# Altium integrated library TI Power Management Power Modules.IntLib: 831 symbols (part 2 of 44)
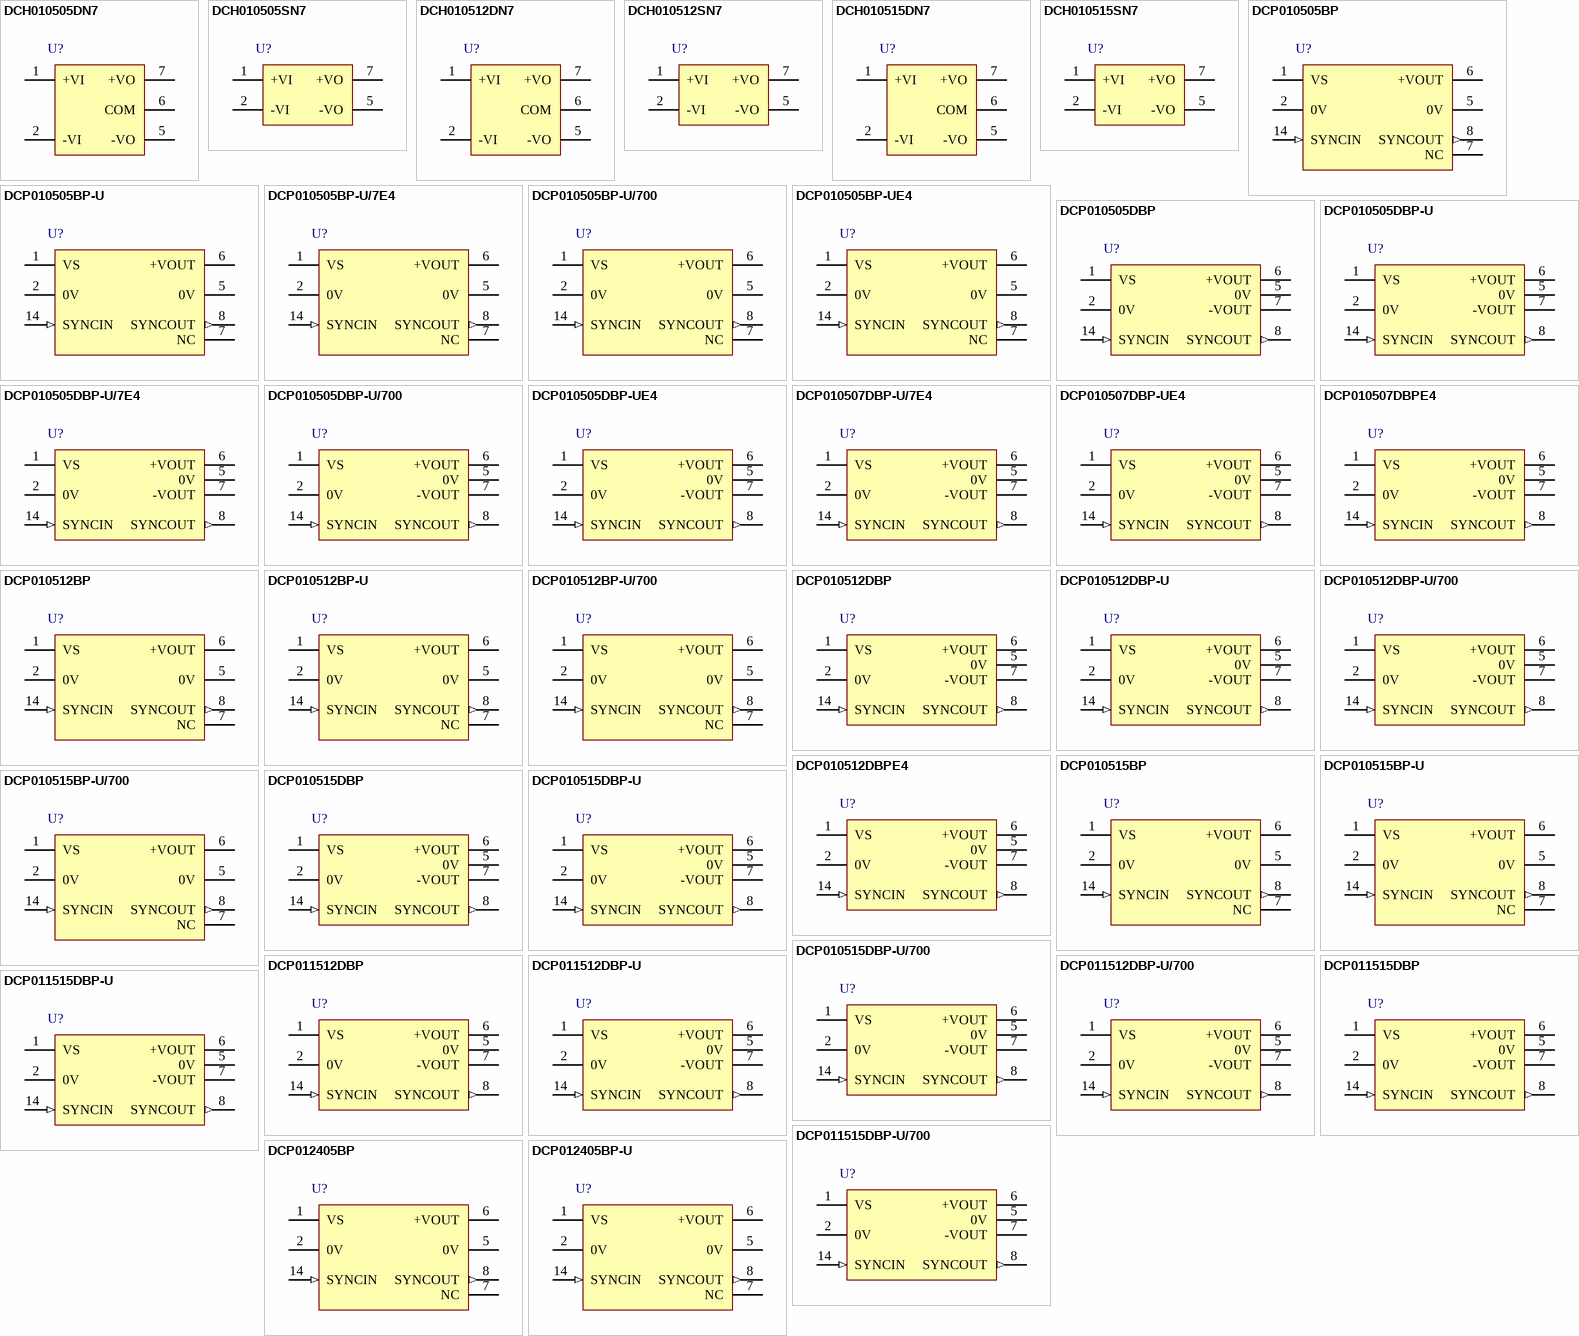
[diagram p24: symbols DCH010505DN7 to DCP012405BP-U]

## DCP010515DBP-U
designator U?
Miniature, 1 W Isolated Unregulated DC-DC Converter, -40 to 100 degC, 7-pin SOP (DUA7), Pb-Free (RoHS); Manufacturer: Texas Instruments; PartNumber: DCP010515DBP-U; Iout(Max)(A): 0.033; Regulated Outputs(#): 2; SubFamily: 1 W & 2 W Miniature; Vin(Max)(V): 5.5; Vin(Min)(V): 4.5; Vout(Max)(V): 15.75; Vout(Min)(V): 14.25; DatasheetVersion: SBVS012E; PackageVersion: 4202490/B; PackageReference: DUA7; PackageDescription: 7-Pin Plastic Small Outline, Body 6.61 x 19.18 mm; Supplier 1: Digi-Key; Supplier Part Number 1: DCP010515DBP-U-ND; Supplier 2: Farnell; Supplier Part Number 2: 1461018; Supplier 3: Newark; Supplier Part Number 3: 74K3724; Supplier 4: Mouser; Supplier Part Number 4: 595-DCP010515DBP-U; Eco-Plan: Pb-Free (RoHS); Mounting Technology: Surface Mount; ComponentLink1Description: Manufacturer URL; ComponentLink1URL: http://www.ti.com/; ComponentLink2Description: Datasheet; ComponentLink2URL: http://www.ti.com/general/docs/lit/getliterature.tsp?genericPartNumber=DCP010515DB&fileType=pdf; ComponentLink3Description: Package Specification; ComponentLink3URL: http://www.ti.com/lit/ml/mpds097a/mpds097a.pdf; ComponentLink4Description: URL Link1; ComponentLink4URL: Samples URL:http://www.ti.com/product/dcp010515db#samples
footprint TI-DUA7_N (SOP, 7-Leads, Body 19.18x6.605mm, Pitch 2.54mm, IPC Medium Density)
footprint TI-DUA7_L (SOP, 7-Leads, Body 19.18x6.605mm, Pitch 2.54mm, IPC High Density)
footprint TI-DUA7_M (SOP, 7-Leads, Body 19.18x6.605mm, Pitch 2.54mm, IPC Low Density)
pins: 1 VS (power) "Voltage input", 2 0V (power) "Input side common", 5 0V (power) "Output side common", 6 +VOUT (power) "+Voltage out", 7 -VOUT (power) "-Voltage out", 8 SYNCOUT (out) "Unrectified transformer output", 14 SYNCIN (in) "Synchronization pin"

## DCP010515DBP-U/700
designator U?
Miniature, 1 W Isolated Unregulated DC-DC Converter, -40 to 100 degC, 7-pin SOP (DUA7), Pb-Free (RoHS); Manufacturer: Texas Instruments; PartNumber: DCP010515DBP-U/700; Iout(Max)(A): 0.033; Regulated Outputs(#): 2; SubFamily: 1 W & 2 W Miniature; Vin(Max)(V): 5.5; Vin(Min)(V): 4.5; Vout(Max)(V): 15.75; Vout(Min)(V): 14.25; DatasheetVersion: SBVS012E; PackageVersion: 4202490/B; PackageReference: DUA7; PackageDescription: 7-Pin Plastic Small Outline, Body 6.61 x 19.18 mm; Supplier 1: Digi-Key; Supplier Part Number 1: DCP010515DBPU/700-ND; Supplier 2: Newark; Supplier Part Number 2: 74C9329; Supplier 3: Mouser; Supplier Part Number 3: 595-DCP010515DBU/700; Eco-Plan: Pb-Free (RoHS); Mounting Technology: Surface Mount; ComponentLink1Description: Manufacturer URL; ComponentLink1URL: http://www.ti.com/; ComponentLink2Description: Datasheet; ComponentLink2URL: http://www.ti.com/general/docs/lit/getliterature.tsp?genericPartNumber=DCP010515DB&fileType=pdf; ComponentLink3Description: Package Specification; ComponentLink3URL: http://www.ti.com/lit/ml/mpds097a/mpds097a.pdf; ComponentLink4Description: URL Link1; ComponentLink4URL: Samples URL:http://www.ti.com/product/tps55010#samples
footprint TI-DUA7_N (SOP, 7-Leads, Body 19.18x6.605mm, Pitch 2.54mm, IPC Medium Density)
footprint TI-DUA7_L (SOP, 7-Leads, Body 19.18x6.605mm, Pitch 2.54mm, IPC High Density)
footprint TI-DUA7_M (SOP, 7-Leads, Body 19.18x6.605mm, Pitch 2.54mm, IPC Low Density)
pins: 1 VS (power) "Voltage input", 2 0V (power) "Input side common", 5 0V (power) "Output side common", 6 +VOUT (power) "+Voltage out", 7 -VOUT (power) "-Voltage out", 8 SYNCOUT (out) "Unrectified transformer output", 14 SYNCIN (in) "Synchronization pin"

## DCP011512DBP
designator U?
Miniature, 1 W Isolated Unregulated DC-DC Converter, -40 to 100 degC, 7-pin DIP (NVA7), Pb-Free (RoHS); Manufacturer: Texas Instruments; PartNumber: DCP011512DBP; Iout(Max)(A): 0.041; Regulated Outputs(#): 2; SubFamily: 1 W & 2 W Miniature; Vin(Max)(V): 16.5; Vin(Min)(V): 13.5; Vout(Max)(V): 12.6; Vout(Min)(V): 11.4; DatasheetVersion: SBVS012E; PackageVersion: 4202489/B; PackageReference: NVA7; PackageDescription: 7-Pin Plastic In-Line, Body 6.61 x 19.18 mm; Supplier 1: Digi-Key; Supplier Part Number 1: DCP011512DBP-ND; Supplier 2: Newark; Supplier Part Number 2: 74K3725; Supplier 3: Mouser; Supplier Part Number 3: 595-DCP011512DBP; Eco-Plan: Pb-Free (RoHS); Mounting Technology: Through Hole; Code_JEDEC: MS-001-AA; ComponentLink1Description: Manufacturer URL; ComponentLink1URL: http://www.ti.com/; ComponentLink2Description: Datasheet; ComponentLink2URL: http://www.ti.com/general/docs/lit/getliterature.tsp?genericPartNumber=DCP011512DB&fileType=pdf; ComponentLink3Description: Package Specification; ComponentLink3URL: http://www.ti.com/lit/ml/mpdi058a/mpdi058a.pdf; ComponentLink4Description: URL Link1; ComponentLink4URL: Samples URL:http://www.ti.com/product/dcp011512db#samples
footprint TI-NVA7 (DIP, 7-Leads, Body 19.18x6.605mm, Pitch 2.54mm)
pins: 1 VS (power) "Voltage input", 2 0V (power) "Input side common", 5 0V (power) "Output side common", 6 +VOUT (power) "+Voltage out", 7 -VOUT (power) "-Voltage out", 8 SYNCOUT (out) "Unrectified transformer output", 14 SYNCIN (in) "Synchronization pin"

## DCP011512DBP-U
designator U?
Miniature, 1 W Isolated Unregulated DC-DC Converter, -40 to 100 degC, 7-pin SOP (DUA7), Pb-Free (RoHS); Manufacturer: Texas Instruments; PartNumber: DCP011512DBP-U; Iout(Max)(A): 0.041; Regulated Outputs(#): 2; SubFamily: 1 W & 2 W Miniature; Vin(Max)(V): 16.5; Vin(Min)(V): 13.5; Vout(Max)(V): 12.6; Vout(Min)(V): 11.4; DatasheetVersion: SBVS012E; PackageVersion: 4202490/B; PackageReference: DUA7; PackageDescription: 7-Pin Plastic Small Outline, Body 6.61 x 19.18 mm; Supplier 1: Digi-Key; Supplier Part Number 1: DCP011512DBP-U-ND; Supplier 2: Newark; Supplier Part Number 2: 74C9330; Supplier 3: Mouser; Supplier Part Number 3: 595-DCP011512DBP-U; Eco-Plan: Pb-Free (RoHS); Mounting Technology: Surface Mount; ComponentLink1Description: Manufacturer URL; ComponentLink1URL: http://www.ti.com/; ComponentLink2Description: Datasheet; ComponentLink2URL: http://www.ti.com/general/docs/lit/getliterature.tsp?genericPartNumber=DCP011512DB&fileType=pdf; ComponentLink3Description: Package Specification; ComponentLink3URL: http://www.ti.com/lit/ml/mpds097a/mpds097a.pdf; ComponentLink4Description: URL Link1; ComponentLink4URL: Samples URL:http://www.ti.com/product/dcp011512db#samples
footprint TI-DUA7_N (SOP, 7-Leads, Body 19.18x6.605mm, Pitch 2.54mm, IPC Medium Density)
footprint TI-DUA7_L (SOP, 7-Leads, Body 19.18x6.605mm, Pitch 2.54mm, IPC High Density)
footprint TI-DUA7_M (SOP, 7-Leads, Body 19.18x6.605mm, Pitch 2.54mm, IPC Low Density)
pins: 1 VS (power) "Voltage input", 2 0V (power) "Input side common", 5 0V (power) "Output side common", 6 +VOUT (power) "+Voltage out", 7 -VOUT (power) "-Voltage out", 8 SYNCOUT (out) "Unrectified transformer output", 14 SYNCIN (in) "Synchronization pin"

## DCP011512DBP-U/700
designator U?
Miniature, 1 W Isolated Unregulated DC-DC Converter, -40 to 100 degC, 7-pin SOP (DUA7), Pb-Free (RoHS); Manufacturer: Texas Instruments; PartNumber: DCP011512DBP-U/700; Iout(Max)(A): 0.041; Regulated Outputs(#): 2; SubFamily: 1 W & 2 W Miniature; Vin(Max)(V): 16.5; Vin(Min)(V): 13.5; Vout(Max)(V): 12.6; Vout(Min)(V): 11.4; DatasheetVersion: SBVS012E; PackageVersion: 4202490/B; PackageReference: DUA7; PackageDescription: 7-Pin Plastic Small Outline, Body 6.61 x 19.18 mm; Supplier 1: Digi-Key; Supplier Part Number 1: DCP011512DBP-U700-ND; Supplier 2: Mouser; Supplier Part Number 2: 595-DCP011512DBU/700; Eco-Plan: Pb-Free (RoHS); Mounting Technology: Surface Mount; ComponentLink1Description: Manufacturer URL; ComponentLink1URL: http://www.ti.com/; ComponentLink2Description: Datasheet; ComponentLink2URL: http://www.ti.com/general/docs/lit/getliterature.tsp?genericPartNumber=DCP011512DB&fileType=pdf; ComponentLink3Description: Package Specification; ComponentLink3URL: http://www.ti.com/lit/ml/mpds097a/mpds097a.pdf; ComponentLink4Description: URL Link1; ComponentLink4URL: Samples URL:http://www.ti.com/product/dcp011512db#samples
footprint TI-DUA7_N (SOP, 7-Leads, Body 19.18x6.605mm, Pitch 2.54mm, IPC Medium Density)
footprint TI-DUA7_L (SOP, 7-Leads, Body 19.18x6.605mm, Pitch 2.54mm, IPC High Density)
footprint TI-DUA7_M (SOP, 7-Leads, Body 19.18x6.605mm, Pitch 2.54mm, IPC Low Density)
pins: 1 VS (power) "Voltage input", 2 0V (power) "Input side common", 5 0V (power) "Output side common", 6 +VOUT (power) "+Voltage out", 7 -VOUT (power) "-Voltage out", 8 SYNCOUT (out) "Unrectified transformer output", 14 SYNCIN (in) "Synchronization pin"

## DCP011515DBP
designator U?
Miniature, 1 W Isolated Unregulated DC-DC Converter, -40 to 100 degC, 7-pin DIP (NVA7), Pb-Free (RoHS); Manufacturer: Texas Instruments; PartNumber: DCP011515DBP; Iout(Max)(A): 0.033; Regulated Outputs(#): 2; SubFamily: 1 W & 2 W Miniature; Vin(Max)(V): 16.5; Vin(Min)(V): 13.5; Vout(Max)(V): 15.75; Vout(Min)(V): 14.25; DatasheetVersion: SBVS012E; PackageVersion: 4202489/B; PackageReference: NVA7; PackageDescription: 7-Pin Plastic In-Line, Body 6.61 x 19.18 mm; Supplier 1: Digi-Key; Supplier Part Number 1: DCP011515DBP-ND; Supplier 2: Farnell; Supplier Part Number 2: 1214389; Supplier 3: Newark; Supplier Part Number 3: 74C9332; Supplier 4: Mouser; Supplier Part Number 4: 595-DCP011515DBP; Eco-Plan: Pb-Free (RoHS); Mounting Technology: Through Hole; Code_JEDEC: MS-001-AA; ComponentLink1Description: Manufacturer URL; ComponentLink1URL: http://www.ti.com/; ComponentLink2Description: Datasheet; ComponentLink2URL: http://www.ti.com/general/docs/lit/getliterature.tsp?genericPartNumber=DCP011515DB&fileType=pdf; ComponentLink3Description: Package Specification; ComponentLink3URL: http://www.ti.com/lit/ml/mpdi058a/mpdi058a.pdf; ComponentLink4Description: URL Link1; ComponentLink4URL: Samples URL:http://www.ti.com/product/dcp011515db#samples
footprint TI-NVA7 (DIP, 7-Leads, Body 19.18x6.605mm, Pitch 2.54mm)
pins: 1 VS (power) "Voltage input", 2 0V (power) "Input side common", 5 0V (power) "Output side common", 6 +VOUT (power) "+Voltage out", 7 -VOUT (power) "-Voltage out", 8 SYNCOUT (out) "Unrectified transformer output", 14 SYNCIN (in) "Synchronization pin"

## DCP011515DBP-U
designator U?
Miniature, 1 W Isolated Unregulated DC-DC Converter, -40 to 100 degC, 7-pin SOP (DUA7), Pb-Free (RoHS); Manufacturer: Texas Instruments; PartNumber: DCP011515DBP-U; Iout(Max)(A): 0.033; Regulated Outputs(#): 2; SubFamily: 1 W & 2 W Miniature; Vin(Max)(V): 16.5; Vin(Min)(V): 13.5; Vout(Max)(V): 15.75; Vout(Min)(V): 14.25; DatasheetVersion: SBVS012E; PackageVersion: 4202490/B; PackageReference: DUA7; PackageDescription: 7-Pin Plastic Small Outline, Body 6.61 x 19.18 mm; Supplier 1: Digi-Key; Supplier Part Number 1: DCP011515DBP-U-ND; Supplier 2: Farnell; Supplier Part Number 2: 1461021; Supplier 3: Newark; Supplier Part Number 3: 61M5783; Supplier 4: Newark; Supplier Part Number 4: 74C9333; Supplier 5: Mouser; Supplier Part Number 5: 595-DCP011515DBP-U; Eco-Plan: Pb-Free (RoHS); Mounting Technology: Surface Mount; ComponentLink1Description: Manufacturer URL; ComponentLink1URL: http://www.ti.com/; ComponentLink2Description: Datasheet; ComponentLink2URL: http://www.ti.com/general/docs/lit/getliterature.tsp?genericPartNumber=DCP011515DB&fileType=pdf; ComponentLink3Description: Package Specification; ComponentLink3URL: http://www.ti.com/lit/ml/mpds097a/mpds097a.pdf; ComponentLink4Description: URL Link1; ComponentLink4URL: Samples URL:http://www.ti.com/product/dcp011515db#samples
footprint TI-DUA7_N (SOP, 7-Leads, Body 19.18x6.605mm, Pitch 2.54mm, IPC Medium Density)
footprint TI-DUA7_L (SOP, 7-Leads, Body 19.18x6.605mm, Pitch 2.54mm, IPC High Density)
footprint TI-DUA7_M (SOP, 7-Leads, Body 19.18x6.605mm, Pitch 2.54mm, IPC Low Density)
pins: 1 VS (power) "Voltage input", 2 0V (power) "Input side common", 5 0V (power) "Output side common", 6 +VOUT (power) "+Voltage out", 7 -VOUT (power) "-Voltage out", 8 SYNCOUT (out) "Unrectified transformer output", 14 SYNCIN (in) "Synchronization pin"

## DCP011515DBP-U/700
designator U?
Miniature, 1 W Isolated Unregulated DC-DC Converter, -40 to 100 degC, 7-pin SOP (DUA7), Pb-Free (RoHS); Manufacturer: Texas Instruments; PartNumber: DCP011515DBP-U/700; Iout(Max)(A): 0.033; Regulated Outputs(#): 2; SubFamily: 1 W & 2 W Miniature; Vin(Max)(V): 16.5; Vin(Min)(V): 13.5; Vout(Max)(V): 15.75; Vout(Min)(V): 14.25; DatasheetVersion: SBVS012E; PackageVersion: 4202490/B; PackageReference: DUA7; PackageDescription: 7-Pin Plastic Small Outline, Body 6.61 x 19.18 mm; Supplier 1: Digi-Key; Supplier Part Number 1: DCP011515DBP-U700-ND; Supplier 2: Newark; Supplier Part Number 2: 74C9334; Supplier 3: Mouser; Supplier Part Number 3: 595-DCP011515DBU/700; Eco-Plan: Pb-Free (RoHS); Mounting Technology: Surface Mount; ComponentLink1Description: Manufacturer URL; ComponentLink1URL: http://www.ti.com/; ComponentLink2Description: Datasheet; ComponentLink2URL: http://www.ti.com/general/docs/lit/getliterature.tsp?genericPartNumber=DCP011515DB&fileType=pdf; ComponentLink3Description: Package Specification; ComponentLink3URL: http://www.ti.com/lit/ml/mpds097a/mpds097a.pdf; ComponentLink4Description: URL Link1; ComponentLink4URL: Samples URL:http://www.ti.com/product/tps55010#samples
footprint TI-DUA7_N (SOP, 7-Leads, Body 19.18x6.605mm, Pitch 2.54mm, IPC Medium Density)
footprint TI-DUA7_L (SOP, 7-Leads, Body 19.18x6.605mm, Pitch 2.54mm, IPC High Density)
footprint TI-DUA7_M (SOP, 7-Leads, Body 19.18x6.605mm, Pitch 2.54mm, IPC Low Density)
pins: 1 VS (power) "Voltage input", 2 0V (power) "Input side common", 5 0V (power) "Output side common", 6 +VOUT (power) "+Voltage out", 7 -VOUT (power) "-Voltage out", 8 SYNCOUT (out) "Unrectified transformer output", 14 SYNCIN (in) "Synchronization pin"

## DCP012405BP
designator U?
Miniature, 1 W Isolated Unregulated DC-DC Converter, -40 to 100 degC, 7-pin DIP (NVA7), Pb-Free (RoHS); Manufacturer: Texas Instruments; PartNumber: DCP012405BP; Iout(Max)(A): 0.2; Regulated Outputs(#): 1; SubFamily: 1 W & 2 W Miniature; Vin(Max)(V): 26.4; Vin(Min)(V): 21.6; Vout(Max)(V): 5.25; Vout(Min)(V): 4.75; DatasheetVersion: SBVS012E; PackageVersion: 4202489/B; PackageReference: NVA7; PackageDescription: 7-Pin Plastic In-Line, Body 6.61 x 19.18 mm; Supplier 1: Digi-Key; Supplier Part Number 1: DCP012405BP-ND; Supplier 2: Newark; Supplier Part Number 2: 35C1680; Supplier 3: Mouser; Supplier Part Number 3: 595-DCP012405BP; Eco-Plan: Pb-Free (RoHS); Mounting Technology: Through Hole; Code_JEDEC: MS-001-AA; ComponentLink1Description: Manufacturer URL; ComponentLink1URL: http://www.ti.com/; ComponentLink2Description: Datasheet; ComponentLink2URL: http://www.ti.com/general/docs/lit/getliterature.tsp?genericPartNumber=DCP012405B&fileType=pdf; ComponentLink3Description: Package Specification; ComponentLink3URL: http://www.ti.com/lit/ml/mpdi058a/mpdi058a.pdf; ComponentLink4Description: URL Link1; ComponentLink4URL: Samples URL:http://www.ti.com/product/dcp012405b#samples
footprint TI-NVA7 (DIP, 7-Leads, Body 19.18x6.605mm, Pitch 2.54mm)
pins: 1 VS (power) "Voltage input", 2 0V (power) "Input side common", 5 0V (power) "Output side common", 6 +VOUT (power) "+Voltage Out", 7 NC "Not connected", 8 SYNCOUT (out) "Unrectified transformer output", 14 SYNCIN (in) "Synchronization pin"

## DCP012405BP-U
designator U?
Miniature, 1 W Isolated Unregulated DC-DC Converter, -40 to 100 degC, 7-pin SOP (DUA7), Pb-Free (RoHS); Manufacturer: Texas Instruments; PartNumber: DCP012405BP-U; Iout(Max)(A): 0.2; Regulated Outputs(#): 1; SubFamily: 1 W & 2 W Miniature; Vin(Max)(V): 26.4; Vin(Min)(V): 21.6; Vout(Max)(V): 5.25; Vout(Min)(V): 4.75; DatasheetVersion: SBVS012E; PackageVersion: 4202490/B; PackageReference: DUA7; PackageDescription: 7-Pin Plastic Small Outline, Body 6.61 x 19.18 mm; Supplier 1: Digi-Key; Supplier Part Number 1: DCP012405BP-U-ND; Supplier 2: Farnell; Supplier Part Number 2: 1461022; Supplier 3: Newark; Supplier Part Number 3: 74C9335; Supplier 4: Mouser; Supplier Part Number 4: 595-DCP012405BP-U; Eco-Plan: Pb-Free (RoHS); Mounting Technology: Surface Mount; ComponentLink1Description: Manufacturer URL; ComponentLink1URL: http://www.ti.com/; ComponentLink2Description: Datasheet; ComponentLink2URL: http://www.ti.com/general/docs/lit/getliterature.tsp?genericPartNumber=DCP012405B&fileType=pdf; ComponentLink3Description: Package Specification; ComponentLink3URL: http://www.ti.com/lit/ml/mpds097a/mpds097a.pdf; ComponentLink4Description: URL Link1; ComponentLink4URL: Samples URL:http://www.ti.com/product/tps55010#samples
footprint TI-DUA7_N (SOP, 7-Leads, Body 19.18x6.605mm, Pitch 2.54mm, IPC Medium Density)
footprint TI-DUA7_L (SOP, 7-Leads, Body 19.18x6.605mm, Pitch 2.54mm, IPC High Density)
footprint TI-DUA7_M (SOP, 7-Leads, Body 19.18x6.605mm, Pitch 2.54mm, IPC Low Density)
pins: 1 VS (power) "Voltage input", 2 0V (power) "Input side common", 5 0V (power) "Output side common", 6 +VOUT (power) "+Voltage Out", 7 NC "Not connected", 8 SYNCOUT (out) "Unrectified transformer output", 14 SYNCIN (in) "Synchronization pin"

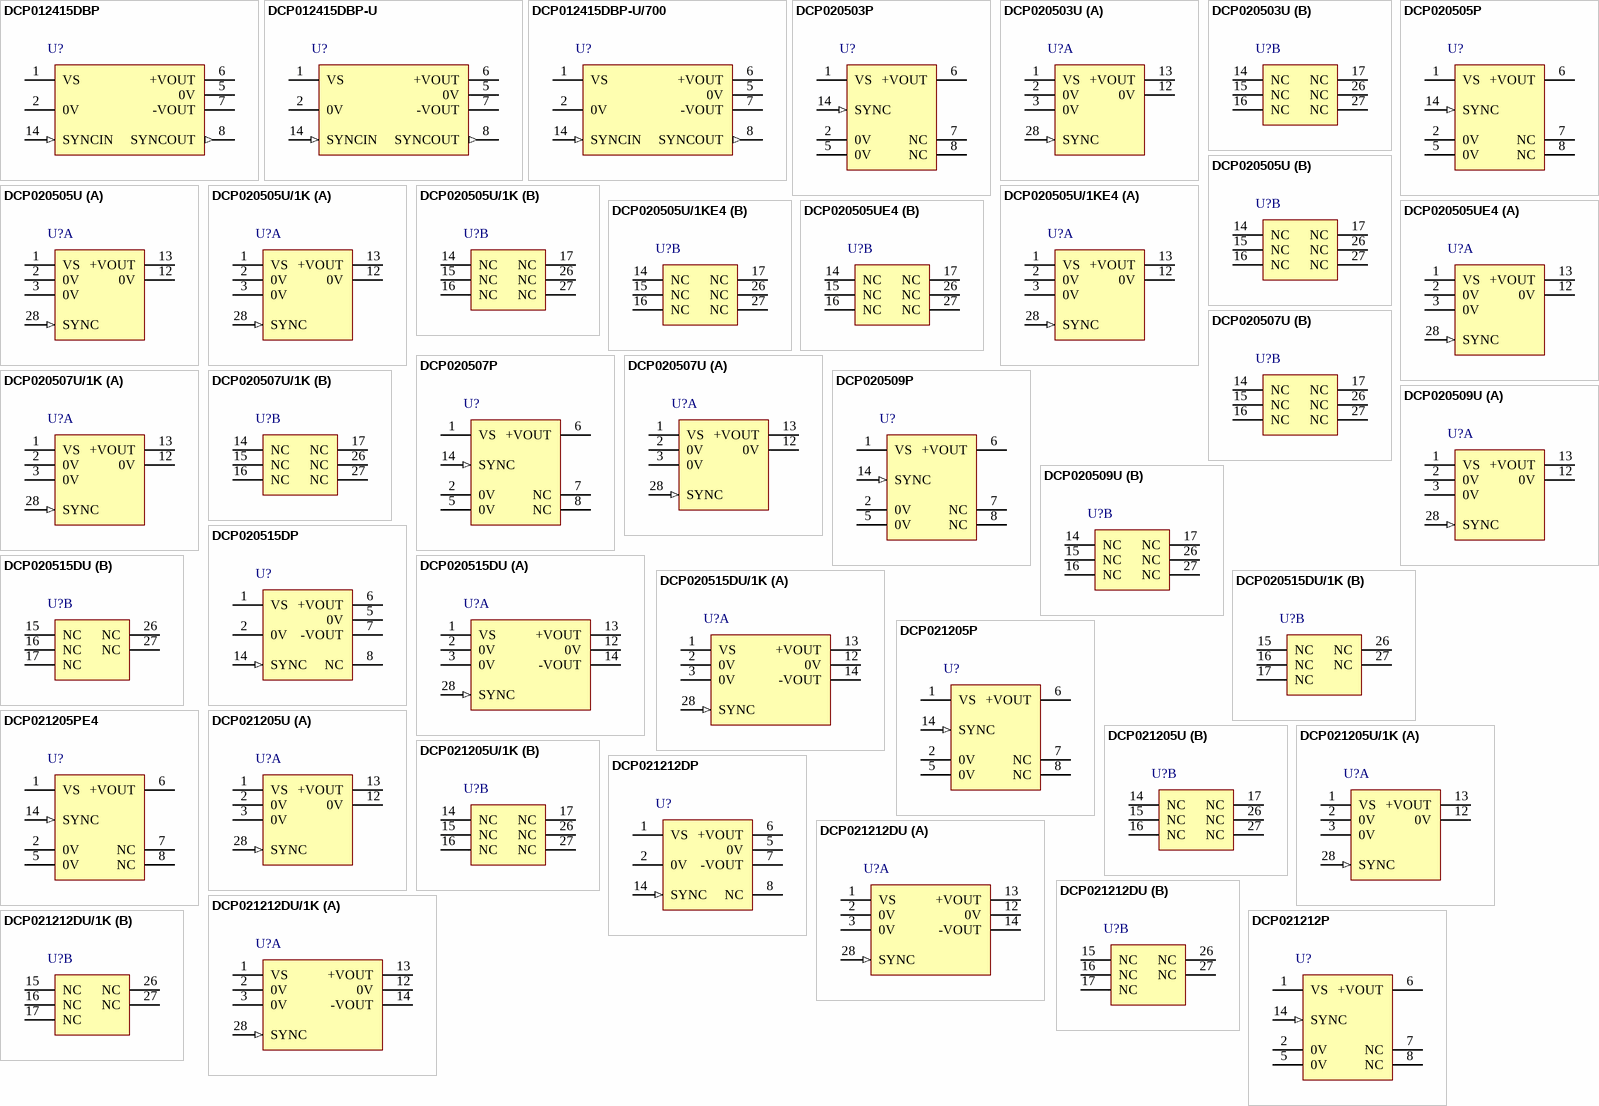
[diagram p1: symbols DCP012415DBP to DCP021212P]

## DCP012415DBP
designator U?
Miniature, 1 W Isolated Unregulated DC-DC Converter, -40 to 100 degC, 7-pin DIP (NVA7), Pb-Free (RoHS); Manufacturer: Texas Instruments; PartNumber: DCP012415DBP; Iout(Max)(A): 0.033; Regulated Outputs(#): 2; SubFamily: 1 W & 2 W Miniature; Vin(Max)(V): 26.4; Vin(Min)(V): 21.6; Vout(Max)(V): 15.75; Vout(Min)(V): 14.25; DatasheetVersion: SBVS012E; PackageVersion: 4202489/B; PackageReference: NVA7; PackageDescription: 7-Pin Plastic In-Line, Body 6.61 x 19.18 mm; Supplier 1: Digi-Key; Supplier Part Number 1: DCP012415DBP-ND; Supplier 2: Newark; Supplier Part Number 2: 74C9337; Supplier 3: Mouser; Supplier Part Number 3: 595-DCP012415DBP; Eco-Plan: Pb-Free (RoHS); Mounting Technology: Through Hole; Code_JEDEC: MS-001-AA; ComponentLink1Description: Manufacturer URL; ComponentLink1URL: http://www.ti.com/; ComponentLink2Description: Datasheet; ComponentLink2URL: http://www.ti.com/general/docs/lit/getliterature.tsp?genericPartNumber=DCP012415DB&fileType=pdf; ComponentLink3Description: Package Specification; ComponentLink3URL: http://www.ti.com/lit/ml/mpdi058a/mpdi058a.pdf; ComponentLink4Description: URL Link1; ComponentLink4URL: Samples URL:http://www.ti.com/product/dcp012415db#samples
footprint TI-NVA7 (DIP, 7-Leads, Body 19.18x6.605mm, Pitch 2.54mm)
pins: 1 VS (power) "Voltage input", 2 0V (power) "Input side common", 5 0V (power) "Output side common", 6 +VOUT (power) "+Voltage out", 7 -VOUT (power) "-Voltage out", 8 SYNCOUT (out) "Unrectified transformer output", 14 SYNCIN (in) "Synchronization pin"

## DCP012415DBP-U
designator U?
Miniature, 1 W Isolated Unregulated DC-DC Converter, -40 to 100 degC, 7-pin SOP (DUA7), Pb-Free (RoHS); Manufacturer: Texas Instruments; PartNumber: DCP012415DBP-U; Iout(Max)(A): 0.033; Regulated Outputs(#): 2; SubFamily: 1 W & 2 W Miniature; Vin(Max)(V): 26.4; Vin(Min)(V): 21.6; Vout(Max)(V): 15.75; Vout(Min)(V): 14.25; DatasheetVersion: SBVS012E; PackageVersion: 4202490/B; PackageReference: DUA7; PackageDescription: 7-Pin Plastic Small Outline, Body 6.61 x 19.18 mm; Supplier 1: Digi-Key; Supplier Part Number 1: DCP012415DBP-U-ND; Supplier 2: Farnell; Supplier Part Number 2: 1247063; Supplier 3: Newark; Supplier Part Number 3: 76K4235; Supplier 4: Mouser; Supplier Part Number 4: 595-DCP012415DBP-U; Eco-Plan: Pb-Free (RoHS); Mounting Technology: Surface Mount; ComponentLink1Description: Manufacturer URL; ComponentLink1URL: http://www.ti.com/; ComponentLink2Description: Datasheet; ComponentLink2URL: http://www.ti.com/general/docs/lit/getliterature.tsp?genericPartNumber=DCP012415DB&fileType=pdf; ComponentLink3Description: Package Specification; ComponentLink3URL: http://www.ti.com/lit/ml/mpds097a/mpds097a.pdf; ComponentLink4Description: URL Link1; ComponentLink4URL: Samples URL:http://www.ti.com/product/dcp012415db#samples
footprint TI-DUA7_N (SOP, 7-Leads, Body 19.18x6.605mm, Pitch 2.54mm, IPC Medium Density)
footprint TI-DUA7_L (SOP, 7-Leads, Body 19.18x6.605mm, Pitch 2.54mm, IPC High Density)
footprint TI-DUA7_M (SOP, 7-Leads, Body 19.18x6.605mm, Pitch 2.54mm, IPC Low Density)
pins: 1 VS (power) "Voltage input", 2 0V (power) "Input side common", 5 0V (power) "Output side common", 6 +VOUT (power) "+Voltage out", 7 -VOUT (power) "-Voltage out", 8 SYNCOUT (out) "Unrectified transformer output", 14 SYNCIN (in) "Synchronization pin"

## DCP012415DBP-U/700
designator U?
Miniature, 1 W Isolated Unregulated DC-DC Converter, -40 to 100 degC, 7-pin SOP (DUA7), Pb-Free (RoHS); Manufacturer: Texas Instruments; PartNumber: DCP012415DBP-U/700; Iout(Max)(A): 0.033; Regulated Outputs(#): 2; SubFamily: 1 W & 2 W Miniature; Vin(Max)(V): 26.4; Vin(Min)(V): 21.6; Vout(Max)(V): 15.75; Vout(Min)(V): 14.25; DatasheetVersion: SBVS012E; PackageVersion: 4202490/B; PackageReference: DUA7; PackageDescription: 7-Pin Plastic Small Outline, Body 6.61 x 19.18 mm; Supplier 1: Digi-Key; Supplier Part Number 1: DCP012415DBP-U700-ND; Supplier 2: Newark; Supplier Part Number 2: 74C9338; Supplier 3: Mouser; Supplier Part Number 3: 595-DCP012415DBU/700; Eco-Plan: Pb-Free (RoHS); Mounting Technology: Surface Mount; ComponentLink1Description: Manufacturer URL; ComponentLink1URL: http://www.ti.com/; ComponentLink2Description: Datasheet; ComponentLink2URL: http://www.ti.com/general/docs/lit/getliterature.tsp?genericPartNumber=DCP012415DB&fileType=pdf; ComponentLink3Description: Package Specification; ComponentLink3URL: http://www.ti.com/lit/ml/mpds097a/mpds097a.pdf; ComponentLink4Description: URL Link1; ComponentLink4URL: Samples URL:http://www.ti.com/product/tps55010#samples
footprint TI-DUA7_N (SOP, 7-Leads, Body 19.18x6.605mm, Pitch 2.54mm, IPC Medium Density)
footprint TI-DUA7_L (SOP, 7-Leads, Body 19.18x6.605mm, Pitch 2.54mm, IPC High Density)
footprint TI-DUA7_M (SOP, 7-Leads, Body 19.18x6.605mm, Pitch 2.54mm, IPC Low Density)
pins: 1 VS (power) "Voltage input", 2 0V (power) "Input side common", 5 0V (power) "Output side common", 6 +VOUT (power) "+Voltage out", 7 -VOUT (power) "-Voltage out", 8 SYNCOUT (out) "Unrectified transformer output", 14 SYNCIN (in) "Synchronization pin"

## DCP020503P
designator U?
Miniature, 2 W Isolated Unregulated DC-DC Converter, -40 to 85 degC, 7-pin DIP (NVA7), Pb-Free (RoHS); Manufacturer: Texas Instruments; PartNumber: DCP020503P; Iout(Max)(A): 0.606; Regulated Outputs(#): 1; SubFamily: 1 W & 2 W Miniature; Vin(Max)(V): 5.5; Vin(Min)(V): 4.5; Vout(Max)(V): 3.46; Vout(Min)(V): 3.13; DatasheetVersion: SBVS011K; PackageVersion: 4202489/B; PackageReference: NVA7; PackageDescription: 7-Pin Plastic In-Line, Body 6.61 x 19.18 mm; Supplier 1: Digi-Key; Supplier Part Number 1: DCP020503P-ND; Supplier 2: Newark; Supplier Part Number 2: 74C9339; Supplier 3: Mouser; Supplier Part Number 3: 595-DCP020503P; Eco-Plan: Pb-Free (RoHS); Mounting Technology: Through Hole; Code_JEDEC: MS-001-AA; ComponentLink1Description: Manufacturer URL; ComponentLink1URL: http://www.ti.com/; ComponentLink2Description: Datasheet; ComponentLink2URL: http://www.ti.com/general/docs/lit/getliterature.tsp?genericPartNumber=DCP020503&fileType=pdf; ComponentLink3Description: Package Specification; ComponentLink3URL: http://www.ti.com/lit/ml/mpdi058a/mpdi058a.pdf; ComponentLink4Description: URL Link1; ComponentLink4URL: Samples URL:http://www.ti.com/product/dcp020503#samples
footprint TI-NVA7 (DIP, 7-Leads, Body 19.18x6.605mm, Pitch 2.54mm)
pins: 1 VS (power) "Voltage input", 2 0V (power) "Input side common", 5 0V (power) "Output side common", 6 +VOUT (power) "+Voltage out", 7 NC "Not connected", 8 NC "Not connected", 14 SYNC (in) "Synchronization pin"

## DCP020503U
designator U?
Miniature, 2 W Isolated Unregulated DC-DC Converter, -40 to 85 degC, 12-pin SOP (DVB12), Pb-Free (RoHS); Manufacturer: Texas Instruments; PartNumber: DCP020503U; Iout(Max)(A): 0.606; Regulated Outputs(#): 1; SubFamily: 1 W & 2 W Miniature; Vin(Max)(V): 5.5; Vin(Min)(V): 4.5; Vout(Max)(V): 3.46; Vout(Min)(V): 3.13; DatasheetVersion: SBVS011K; PackageVersion: 4202104/B; PackageReference: DVB12; PackageDescription: 12-Pin Plastic Small Outline, Body 17.9 x 7.5 mm; Supplier 1: Digi-Key; Supplier Part Number 1: DCP020503U-ND; Supplier 2: Newark; Supplier Part Number 2: 74C9340; Supplier 3: Mouser; Supplier Part Number 3: 595-DCP020503U; Eco-Plan: Pb-Free (RoHS); Mounting Technology: Surface Mount; Code_JEDEC: MS-013-AE; ComponentLink1Description: Manufacturer URL; ComponentLink1URL: http://www.ti.com/; ComponentLink2Description: Datasheet; ComponentLink2URL: http://www.ti.com/general/docs/lit/getliterature.tsp?genericPartNumber=DCP020503&fileType=pdf; ComponentLink3Description: Package Specification; ComponentLink3URL: http://www.ti.com/lit/ml/mpds106a/mpds106a.pdf; ComponentLink4Description: URL Link1; ComponentLink4URL: Samples URL:http://www.ti.com/product/tps55010#samples
footprint TI-DVB12_N (SOP, 12-Leads, Body 17.9x7.5mm, Pitch 1.27mm, IPC Medium Density)
footprint TI-DVB12_L (SOP, 12-Leads, Body 17.9x7.5mm, Pitch 1.27mm, IPC High Density)
footprint TI-DVB12_M (SOP, 12-Leads, Body 17.9x7.5mm, Pitch 1.27mm, IPC Low Density)
part A pins: 1 VS (power) "Voltage input", 2 0V (power) "Input side common", 3 0V (power) "Input side common", 12 0V (power) "Output side common", 13 +VOUT (power) "+Voltage out", 28 SYNC (in) "Synchronization pin"
part B pins: 14 NC "Not connected", 15 NC "Not connected", 16 NC "Not connected", 17 NC "Not connected", 26 NC "Not connected", 27 NC "Not connected"

## DCP020505P
designator U?
Miniature, 2 W Isolated Unregulated DC-DC Converter, -40 to 85 degC, 7-pin DIP (NVA7), Pb-Free (RoHS); Manufacturer: Texas Instruments; PartNumber: DCP020505P; Iout(Max)(A): 0.4; Regulated Outputs(#): 1; SubFamily: 1 W & 2 W Miniature; Vin(Max)(V): 5.5; Vin(Min)(V): 4.5; Vout(Max)(V): 5.25; Vout(Min)(V): 4.75; DatasheetVersion: SBVS011K; PackageVersion: 4202489/B; PackageReference: NVA7; PackageDescription: 7-Pin Plastic In-Line, Body 6.61 x 19.18 mm; Supplier 1: Digi-Key; Supplier Part Number 1: DCP020505P-ND; Supplier 2: Farnell; Supplier Part Number 2: 1214376; Supplier 3: Newark; Supplier Part Number 3: 74K3726; Supplier 4: Newark; Supplier Part Number 4: 01M7312; Supplier 5: Mouser; Supplier Part Number 5: 595-DCP020505P; Eco-Plan: Pb-Free (RoHS); Mounting Technology: Through Hole; Code_JEDEC: MS-001-AA; ComponentLink1Description: Manufacturer URL; ComponentLink1URL: http://www.ti.com/; ComponentLink2Description: Datasheet; ComponentLink2URL: http://www.ti.com/general/docs/lit/getliterature.tsp?genericPartNumber=DCP020505&fileType=pdf; ComponentLink3Description: Package Specification; ComponentLink3URL: http://www.ti.com/lit/ml/mpdi058a/mpdi058a.pdf; ComponentLink4Description: URL Link1; ComponentLink4URL: Samples URL:http://www.ti.com/product/dcp020505#samples
footprint TI-NVA7 (DIP, 7-Leads, Body 19.18x6.605mm, Pitch 2.54mm)
pins: 1 VS (power) "Voltage input", 2 0V (power) "Input side common", 5 0V (power) "Output side common", 6 +VOUT (power) "+Voltage out", 7 NC "Not connected", 8 NC "Not connected", 14 SYNC (in) "Synchronization pin"

## DCP020505U
designator U?
Miniature, 2 W Isolated Unregulated DC-DC Converter, -40 to 85 degC, 12-pin SOP (DVB12), Pb-Free (RoHS); Manufacturer: Texas Instruments; PartNumber: DCP020505U; Iout(Max)(A): 0.4; Regulated Outputs(#): 1; SubFamily: 1 W & 2 W Miniature; Vin(Max)(V): 5.5; Vin(Min)(V): 4.5; Vout(Max)(V): 5.25; Vout(Min)(V): 4.75; DatasheetVersion: SBVS011K; PackageVersion: 4202104/B; PackageReference: DVB12; PackageDescription: 12-Pin Plastic Small Outline, Body 17.9 x 7.5 mm; Supplier 1: Digi-Key; Supplier Part Number 1: DCP020505U-ND; Supplier 2: Farnell; Supplier Part Number 2: 1252704; Supplier 3: Newark; Supplier Part Number 3: 74K3727; Supplier 4: Mouser; Supplier Part Number 4: 595-DCP020505U; Eco-Plan: Pb-Free (RoHS); Mounting Technology: Surface Mount; Code_JEDEC: MS-013-AE; ComponentLink1Description: Manufacturer URL; ComponentLink1URL: http://www.ti.com/; ComponentLink2Description: Datasheet; ComponentLink2URL: http://www.ti.com/general/docs/lit/getliterature.tsp?genericPartNumber=DCP020505&fileType=pdf; ComponentLink3Description: Package Specification; ComponentLink3URL: http://www.ti.com/lit/ml/mpds106a/mpds106a.pdf; ComponentLink4Description: URL Link1; ComponentLink4URL: Samples URL:http://www.ti.com/product/dcp020505#samples
footprint TI-DVB12_N (SOP, 12-Leads, Body 17.9x7.5mm, Pitch 1.27mm, IPC Medium Density)
footprint TI-DVB12_L (SOP, 12-Leads, Body 17.9x7.5mm, Pitch 1.27mm, IPC High Density)
footprint TI-DVB12_M (SOP, 12-Leads, Body 17.9x7.5mm, Pitch 1.27mm, IPC Low Density)
part A pins: 1 VS (power) "Voltage input", 2 0V (power) "Input side common", 3 0V (power) "Input side common", 12 0V (power) "Output side common", 13 +VOUT (power) "+Voltage out", 28 SYNC (in) "Synchronization pin"
part B pins: 14 NC "Not connected", 15 NC "Not connected", 16 NC "Not connected", 17 NC "Not connected", 26 NC "Not connected", 27 NC "Not connected"

## DCP020505U/1K
designator U?
Miniature, 2 W Isolated Unregulated DC-DC Converter, -40 to 85 degC, 12-pin SOP (DVB12), Pb-Free (RoHS); Manufacturer: Texas Instruments; PartNumber: DCP020505U/1K; Iout(Max)(A): 0.4; Regulated Outputs(#): 1; SubFamily: 1 W & 2 W Miniature; Vin(Max)(V): 5.5; Vin(Min)(V): 4.5; Vout(Max)(V): 5.25; Vout(Min)(V): 4.75; DatasheetVersion: SBVS011K; PackageVersion: 4202104/B; PackageReference: DVB12; PackageDescription: 12-Pin Plastic Small Outline, Body 17.9 x 7.5 mm; Supplier 1: Digi-Key; Supplier Part Number 1: DCP020505U/1K-ND; Supplier 2: Newark; Supplier Part Number 2: 74C9342; Supplier 3: Mouser; Supplier Part Number 3: 595-DCP020505U/1K; Eco-Plan: Pb-Free (RoHS); Mounting Technology: Surface Mount; Code_JEDEC: MS-013-AE; ComponentLink1Description: Manufacturer URL; ComponentLink1URL: http://www.ti.com/; ComponentLink2Description: Datasheet; ComponentLink2URL: http://www.ti.com/general/docs/lit/getliterature.tsp?genericPartNumber=DCP020505&fileType=pdf; ComponentLink3Description: Package Specification; ComponentLink3URL: http://www.ti.com/lit/ml/mpds106a/mpds106a.pdf; ComponentLink4Description: URL Link1; ComponentLink4URL: Samples URL:http://www.ti.com/product/dcp020505#samples
footprint TI-DVB12_N (SOP, 12-Leads, Body 17.9x7.5mm, Pitch 1.27mm, IPC Medium Density)
footprint TI-DVB12_L (SOP, 12-Leads, Body 17.9x7.5mm, Pitch 1.27mm, IPC High Density)
footprint TI-DVB12_M (SOP, 12-Leads, Body 17.9x7.5mm, Pitch 1.27mm, IPC Low Density)
part A pins: 1 VS (power) "Voltage input", 2 0V (power) "Input side common", 3 0V (power) "Input side common", 12 0V (power) "Output side common", 13 +VOUT (power) "+Voltage out", 28 SYNC (in) "Synchronization pin"
part B pins: 14 NC "Not connected", 15 NC "Not connected", 16 NC "Not connected", 17 NC "Not connected", 26 NC "Not connected", 27 NC "Not connected"

## DCP020505U/1KE4
designator U?
Miniature, 2 W Isolated Unregulated DC-DC Converter, -40 to 85 degC, 12-pin SOP (DVB12), Pb-Free (RoHS); Manufacturer: Texas Instruments; PartNumber: DCP020505U/1KE4; Iout(Max)(A): 0.4; Regulated Outputs(#): 1; SubFamily: 1 W & 2 W Miniature; Vin(Max)(V): 5.5; Vin(Min)(V): 4.5; Vout(Max)(V): 5.25; Vout(Min)(V): 4.75; DatasheetVersion: SBVS011K; PackageVersion: 4202104/B; PackageReference: DVB12; PackageDescription: 12-Pin Plastic Small Outline, Body 17.9 x 7.5 mm; Supplier 1: Digi-Key; Supplier Part Number 1: DCP020505U/1KE4-ND; Supplier 2: Newark; Supplier Part Number 2: 28M5378; Supplier 3: Mouser; Supplier Part Number 3: 595-DCP020505U/1KE4; Eco-Plan: Pb-Free (RoHS); Mounting Technology: Surface Mount; Code_JEDEC: MS-013-AE; ComponentLink1Description: Manufacturer URL; ComponentLink1URL: http://www.ti.com/; ComponentLink2Description: Datasheet; ComponentLink2URL: http://www.ti.com/general/docs/lit/getliterature.tsp?genericPartNumber=DCP020505&fileType=pdf; ComponentLink3Description: Package Specification; ComponentLink3URL: http://www.ti.com/lit/ml/mpds106a/mpds106a.pdf; ComponentLink4Description: URL Link1; ComponentLink4URL: Samples URL:http://www.ti.com/product/dcp020505#samples
footprint TI-DVB12_N (SOP, 12-Leads, Body 17.9x7.5mm, Pitch 1.27mm, IPC Medium Density)
footprint TI-DVB12_L (SOP, 12-Leads, Body 17.9x7.5mm, Pitch 1.27mm, IPC High Density)
footprint TI-DVB12_M (SOP, 12-Leads, Body 17.9x7.5mm, Pitch 1.27mm, IPC Low Density)
part A pins: 1 VS (power) "Voltage input", 2 0V (power) "Input side common", 3 0V (power) "Input side common", 12 0V (power) "Output side common", 13 +VOUT (power) "+Voltage out", 28 SYNC (in) "Synchronization pin"
part B pins: 14 NC "Not connected", 15 NC "Not connected", 16 NC "Not connected", 17 NC "Not connected", 26 NC "Not connected", 27 NC "Not connected"

## DCP020505UE4
designator U?
Miniature, 2 W Isolated Unregulated DC-DC Converter, -40 to 85 degC, 12-pin SOP (DVB12), Pb-Free (RoHS); Manufacturer: Texas Instruments; PartNumber: DCP020505UE4; Iout(Max)(A): 0.4; Regulated Outputs(#): 1; SubFamily: 1 W & 2 W Miniature; Vin(Max)(V): 5.5; Vin(Min)(V): 4.5; Vout(Max)(V): 5.25; Vout(Min)(V): 4.75; DatasheetVersion: SBVS011K; PackageVersion: 4202104/B; PackageReference: DVB12; PackageDescription: 12-Pin Plastic Small Outline, Body 17.9 x 7.5 mm; Supplier 1: Digi-Key; Supplier Part Number 1: DCP020505UE4-ND; Supplier 2: Farnell; Supplier Part Number 2: 1214381; Supplier 3: Newark; Supplier Part Number 3: 96K8468; Supplier 4: Newark; Supplier Part Number 4: 28M5379; Supplier 5: Mouser; Supplier Part Number 5: 595-DCP020505UE4; Eco-Plan: Pb-Free (RoHS); Mounting Technology: Surface Mount; Code_JEDEC: MS-013-AE; ComponentLink1Description: Manufacturer URL; ComponentLink1URL: http://www.ti.com/; ComponentLink2Description: Datasheet; ComponentLink2URL: http://www.ti.com/general/docs/lit/getliterature.tsp?genericPartNumber=DCP020505&fileType=pdf; ComponentLink3Description: Package Specification; ComponentLink3URL: http://www.ti.com/lit/ml/mpds106a/mpds106a.pdf; ComponentLink4Description: URL Link1; ComponentLink4URL: Samples URL:http://www.ti.com/product/tps55010#samples
footprint TI-DVB12_N (SOP, 12-Leads, Body 17.9x7.5mm, Pitch 1.27mm, IPC Medium Density)
footprint TI-DVB12_L (SOP, 12-Leads, Body 17.9x7.5mm, Pitch 1.27mm, IPC High Density)
footprint TI-DVB12_M (SOP, 12-Leads, Body 17.9x7.5mm, Pitch 1.27mm, IPC Low Density)
part A pins: 1 VS (power) "Voltage input", 2 0V (power) "Input side common", 3 0V (power) "Input side common", 12 0V (power) "Output side common", 13 +VOUT (power) "+Voltage out", 28 SYNC (in) "Synchronization pin"
part B pins: 14 NC "Not connected", 15 NC "Not connected", 16 NC "Not connected", 17 NC "Not connected", 26 NC "Not connected", 27 NC "Not connected"

## DCP020507P
designator U?
Miniature, 2 W Isolated Unregulated DC-DC Converter, -40 to 85 degC, 7-pin DIP (NVA7), Pb-Free (RoHS); Manufacturer: Texas Instruments; PartNumber: DCP020507P; Iout(Max)(A): 0.286; Regulated Outputs(#): 1; SubFamily: 1 W & 2 W Miniature; Vin(Max)(V): 5.5; Vin(Min)(V): 4.5; Vout(Max)(V): 7.35; Vout(Min)(V): 6.65; DatasheetVersion: SBVS011K; PackageVersion: 4202489/B; PackageReference: NVA7; PackageDescription: 7-Pin Plastic In-Line, Body 6.61 x 19.18 mm; Supplier 1: Digi-Key; Supplier Part Number 1: DCP020507P-ND; Supplier 2: Newark; Supplier Part Number 2: 74C9343; Supplier 3: Mouser; Supplier Part Number 3: 595-DCP020507P; Eco-Plan: Pb-Free (RoHS); Mounting Technology: Through Hole; Code_JEDEC: MS-001-AA; ComponentLink1Description: Manufacturer URL; ComponentLink1URL: http://www.ti.com/; ComponentLink2Description: Datasheet; ComponentLink2URL: http://www.ti.com/general/docs/lit/getliterature.tsp?genericPartNumber=DCP020507&fileType=pdf; ComponentLink3Description: Package Specification; ComponentLink3URL: http://www.ti.com/lit/ml/mpdi058a/mpdi058a.pdf; ComponentLink4Description: URL Link1; ComponentLink4URL: Samples URL:http://www.ti.com/product/dcp020507#samples
footprint TI-NVA7 (DIP, 7-Leads, Body 19.18x6.605mm, Pitch 2.54mm)
pins: 1 VS (power) "Voltage input", 2 0V (power) "Input side common", 5 0V (power) "Output side common", 6 +VOUT (power) "+Voltage out", 7 NC "Not connected", 8 NC "Not connected", 14 SYNC (in) "Synchronization pin"

## DCP020507U
designator U?
Miniature, 2 W Isolated Unregulated DC-DC Converter, -40 to 85 degC, 12-pin SOP (DVB12), Pb-Free (RoHS); Manufacturer: Texas Instruments; PartNumber: DCP020507U; Iout(Max)(A): 0.286; Regulated Outputs(#): 1; SubFamily: 1 W & 2 W Miniature; Vin(Max)(V): 5.5; Vin(Min)(V): 4.5; Vout(Max)(V): 7.35; Vout(Min)(V): 6.65; DatasheetVersion: SBVS011K; PackageVersion: 4202104/B; PackageReference: DVB12; PackageDescription: 12-Pin Plastic Small Outline, Body 17.9 x 7.5 mm; Supplier 1: Digi-Key; Supplier Part Number 1: DCP020507U-ND; Supplier 2: Newark; Supplier Part Number 2: 74C9344; Supplier 3: Mouser; Supplier Part Number 3: 595-DCP020507U; Eco-Plan: Pb-Free (RoHS); Mounting Technology: Surface Mount; Code_JEDEC: MS-013-AE; ComponentLink1Description: Manufacturer URL; ComponentLink1URL: http://www.ti.com/; ComponentLink2Description: Datasheet; ComponentLink2URL: http://www.ti.com/general/docs/lit/getliterature.tsp?genericPartNumber=DCP020507&fileType=pdf; ComponentLink3Description: Package Specification; ComponentLink3URL: http://www.ti.com/lit/ml/mpds106a/mpds106a.pdf; ComponentLink4Description: URL Link1; ComponentLink4URL: Samples URL:http://www.ti.com/product/dcp020507#samples
footprint TI-DVB12_N (SOP, 12-Leads, Body 17.9x7.5mm, Pitch 1.27mm, IPC Medium Density)
footprint TI-DVB12_L (SOP, 12-Leads, Body 17.9x7.5mm, Pitch 1.27mm, IPC High Density)
footprint TI-DVB12_M (SOP, 12-Leads, Body 17.9x7.5mm, Pitch 1.27mm, IPC Low Density)
part A pins: 1 VS (power) "Voltage input", 2 0V (power) "Input side common", 3 0V (power) "Input side common", 12 0V (power) "Output side common", 13 +VOUT (power) "+Voltage out", 28 SYNC (in) "Synchronization pin"
part B pins: 14 NC "Not connected", 15 NC "Not connected", 16 NC "Not connected", 17 NC "Not connected", 26 NC "Not connected", 27 NC "Not connected"

## DCP020507U/1K
designator U?
Miniature, 2 W Isolated Unregulated DC-DC Converter, -40 to 85 degC, 12-pin SOP (DVB12), Pb-Free (RoHS); Manufacturer: Texas Instruments; PartNumber: DCP020507U/1K; Iout(Max)(A): 0.286; Regulated Outputs(#): 1; SubFamily: 1 W & 2 W Miniature; Vin(Max)(V): 5.5; Vin(Min)(V): 4.5; Vout(Max)(V): 7.35; Vout(Min)(V): 6.65; DatasheetVersion: SBVS011K; PackageVersion: 4202104/B; PackageReference: DVB12; PackageDescription: 12-Pin Plastic Small Outline, Body 17.9 x 7.5 mm; Supplier 1: Digi-Key; Supplier Part Number 1: DCP020507U/1K-ND; Supplier 2: Newark; Supplier Part Number 2: 74C9345; Supplier 3: Mouser; Supplier Part Number 3: 595-DCP020507U/1K; Eco-Plan: Pb-Free (RoHS); Mounting Technology: Surface Mount; Code_JEDEC: MS-013-AE; ComponentLink1Description: Manufacturer URL; ComponentLink1URL: http://www.ti.com/; ComponentLink2Description: Datasheet; ComponentLink2URL: http://www.ti.com/general/docs/lit/getliterature.tsp?genericPartNumber=DCP020507&fileType=pdf; ComponentLink3Description: Package Specification; ComponentLink3URL: http://www.ti.com/lit/ml/mpds106a/mpds106a.pdf; ComponentLink4Description: URL Link1; ComponentLink4URL: Samples URL:http://www.ti.com/product/tps55010#samples
footprint TI-DVB12_N (SOP, 12-Leads, Body 17.9x7.5mm, Pitch 1.27mm, IPC Medium Density)
footprint TI-DVB12_L (SOP, 12-Leads, Body 17.9x7.5mm, Pitch 1.27mm, IPC High Density)
footprint TI-DVB12_M (SOP, 12-Leads, Body 17.9x7.5mm, Pitch 1.27mm, IPC Low Density)
part A pins: 1 VS (power) "Voltage input", 2 0V (power) "Input side common", 3 0V (power) "Input side common", 12 0V (power) "Output side common", 13 +VOUT (power) "+Voltage out", 28 SYNC (in) "Synchronization pin"
part B pins: 14 NC "Not connected", 15 NC "Not connected", 16 NC "Not connected", 17 NC "Not connected", 26 NC "Not connected", 27 NC "Not connected"

## DCP020509P
designator U?
Miniature, 2 W Isolated Unregulated DC-DC Converter, -40 to 85 degC, 7-pin DIP (NVA7), Pb-Free (RoHS); Manufacturer: Texas Instruments; PartNumber: DCP020509P; Iout(Max)(A): 0.222; Regulated Outputs(#): 1; SubFamily: 1 W & 2 W Miniature; Vin(Max)(V): 5.5; Vin(Min)(V): 4.5; Vout(Max)(V): 9.45; Vout(Min)(V): 8.55; DatasheetVersion: SBVS011K; PackageVersion: 4202489/B; PackageReference: NVA7; PackageDescription: 7-Pin Plastic In-Line, Body 6.61 x 19.18 mm; Supplier 1: Digi-Key; Supplier Part Number 1: DCP020509P-ND; Supplier 2: Farnell; Supplier Part Number 2: 1461027; Supplier 3: Newark; Supplier Part Number 3: 74C9346; Supplier 4: Mouser; Supplier Part Number 4: 595-DCP020509P; Eco-Plan: Pb-Free (RoHS); Mounting Technology: Through Hole; Code_JEDEC: MS-001-AA; ComponentLink1Description: Manufacturer URL; ComponentLink1URL: http://www.ti.com/; ComponentLink2Description: Datasheet; ComponentLink2URL: http://www.ti.com/general/docs/lit/getliterature.tsp?genericPartNumber=DCP020509&fileType=pdf; ComponentLink3Description: Package Specification; ComponentLink3URL: http://www.ti.com/lit/ml/mpdi058a/mpdi058a.pdf; ComponentLink4Description: URL Link1; ComponentLink4URL: Samples URL:http://www.ti.com/product/dcp020509#samples
footprint TI-NVA7 (DIP, 7-Leads, Body 19.18x6.605mm, Pitch 2.54mm)
pins: 1 VS (power) "Voltage input", 2 0V (power) "Input side common", 5 0V (power) "Output side common", 6 +VOUT (power) "+Voltage out", 7 NC "Not connected", 8 NC "Not connected", 14 SYNC (in) "Synchronization pin"

## DCP020509U
designator U?
Miniature, 2 W Isolated Unregulated DC-DC Converter, -40 to 85 degC, 12-pin SOP (DVB12), Pb-Free (RoHS); Manufacturer: Texas Instruments; PartNumber: DCP020509U; Iout(Max)(A): 0.222; Regulated Outputs(#): 1; SubFamily: 1 W & 2 W Miniature; Vin(Max)(V): 5.5; Vin(Min)(V): 4.5; Vout(Max)(V): 9.45; Vout(Min)(V): 8.55; DatasheetVersion: SBVS011K; PackageVersion: 4202104/B; PackageReference: DVB12; PackageDescription: 12-Pin Plastic Small Outline, Body 17.9 x 7.5 mm; Supplier 1: Digi-Key; Supplier Part Number 1: DCP020509U-ND; Supplier 2: Farnell; Supplier Part Number 2: 1461028; Supplier 3: Newark; Supplier Part Number 3: 74K3728; Supplier 4: Newark; Supplier Part Number 4: 61M5786; Supplier 5: Mouser; Supplier Part Number 5: 595-DCP020509U; Eco-Plan: Pb-Free (RoHS); Mounting Technology: Surface Mount; Code_JEDEC: MS-013-AE; ComponentLink1Description: Manufacturer URL; ComponentLink1URL: http://www.ti.com/; ComponentLink2Description: Datasheet; ComponentLink2URL: http://www.ti.com/general/docs/lit/getliterature.tsp?genericPartNumber=DCP020509&fileType=pdf; ComponentLink3Description: Package Specification; ComponentLink3URL: http://www.ti.com/lit/ml/mpds106a/mpds106a.pdf; ComponentLink4Description: URL Link1; ComponentLink4URL: Samples URL:http://www.ti.com/product/tps55010#samples
footprint TI-DVB12_N (SOP, 12-Leads, Body 17.9x7.5mm, Pitch 1.27mm, IPC Medium Density)
footprint TI-DVB12_L (SOP, 12-Leads, Body 17.9x7.5mm, Pitch 1.27mm, IPC High Density)
footprint TI-DVB12_M (SOP, 12-Leads, Body 17.9x7.5mm, Pitch 1.27mm, IPC Low Density)
part A pins: 1 VS (power) "Voltage input", 2 0V (power) "Input side common", 3 0V (power) "Input side common", 12 0V (power) "Output side common", 13 +VOUT (power) "+Voltage out", 28 SYNC (in) "Synchronization pin"
part B pins: 14 NC "Not connected", 15 NC "Not connected", 16 NC "Not connected", 17 NC "Not connected", 26 NC "Not connected", 27 NC "Not connected"

## DCP020515DP
designator U?
Miniature, 2 W Isolated Unregulated DC-DC Converter, -40 to 85 degC, 7-pin DIP (NVA7), Pb-Free (RoHS); Manufacturer: Texas Instruments; PartNumber: DCP020515DP; Iout(Max)(A): 0.066; Regulated Outputs(#): 2; SubFamily: 1 W & 2 W Miniature; Vin(Max)(V): 5.5; Vin(Min)(V): 4.5; Vout(Max)(V): 15.75; Vout(Min)(V): 14.25; DatasheetVersion: SBVS011K; PackageVersion: 4202489/B; PackageReference: NVA7; PackageDescription: 7-Pin Plastic In-Line, Body 6.61 x 19.18 mm; Supplier 1: Digi-Key; Supplier Part Number 1: DCP020515DP-ND; Supplier 2: Farnell; Supplier Part Number 2: 1097501; Supplier 3: Newark; Supplier Part Number 3: 79K6170; Supplier 4: Mouser; Supplier Part Number 4: 595-DCP020515DP; Eco-Plan: Pb-Free (RoHS); Mounting Technology: Through Hole; Code_JEDEC: MS-001-AA; ComponentLink1Description: Manufacturer URL; ComponentLink1URL: http://www.ti.com/; ComponentLink2Description: Datasheet; ComponentLink2URL: http://www.ti.com/general/docs/lit/getliterature.tsp?genericPartNumber=DCP020515D&fileType=pdf; ComponentLink3Description: Package Specification; ComponentLink3URL: http://www.ti.com/lit/ml/mpdi058a/mpdi058a.pdf; ComponentLink4Description: URL Link1; ComponentLink4URL: Samples URL:http://www.ti.com/product/dcp020515d#samples
footprint TI-NVA7 (DIP, 7-Leads, Body 19.18x6.605mm, Pitch 2.54mm)
pins: 1 VS (power) "Voltage input", 2 0V (power) "Input side common", 5 0V (power) "Output side common", 6 +VOUT (power) "+Voltage out", 7 -VOUT (power) "-Voltage out", 8 NC "Not connected", 14 SYNC (in) "Synchronization pin"

## DCP020515DU
designator U?
Miniature, 2 W Isolated Unregulated DC-DC Converter, -40 to 85 degC, 12-pin SOP (DVB12), Pb-Free (RoHS); Manufacturer: Texas Instruments; PartNumber: DCP020515DU; Iout(Max)(A): 0.066; Regulated Outputs(#): 2; SubFamily: 1 W & 2 W Miniature; Vin(Max)(V): 5.5; Vin(Min)(V): 4.5; Vout(Max)(V): 15.75; Vout(Min)(V): 14.25; DatasheetVersion: SBVS011K; PackageVersion: 4202104/B; PackageReference: DVB12; PackageDescription: 12-Pin Plastic Small Outline, Body 17.9 x 7.5 mm; Supplier 1: Digi-Key; Supplier Part Number 1: DCP020515DU-ND; Supplier 2: Farnell; Supplier Part Number 2: 1212381; Supplier 3: Newark; Supplier Part Number 3: 01M7313; Supplier 4: Newark; Supplier Part Number 4: 82K8332; Supplier 5: Mouser; Supplier Part Number 5: 595-DCP020515DU; Eco-Plan: Pb-Free (RoHS); Mounting Technology: Surface Mount; Code_JEDEC: MS-013-AE; ComponentLink1Description: Manufacturer URL; ComponentLink1URL: http://www.ti.com/; ComponentLink2Description: Datasheet; ComponentLink2URL: http://www.ti.com/general/docs/lit/getliterature.tsp?genericPartNumber=DCP020515D&fileType=pdf; ComponentLink3Description: Package Specification; ComponentLink3URL: http://www.ti.com/lit/ml/mpds106a/mpds106a.pdf; ComponentLink4Description: URL Link1; ComponentLink4URL: Samples URL:http://www.ti.com/product/dcp020515d#samples
footprint TI-DVB12_N (SOP, 12-Leads, Body 17.9x7.5mm, Pitch 1.27mm, IPC Medium Density)
footprint TI-DVB12_L (SOP, 12-Leads, Body 17.9x7.5mm, Pitch 1.27mm, IPC High Density)
footprint TI-DVB12_M (SOP, 12-Leads, Body 17.9x7.5mm, Pitch 1.27mm, IPC Low Density)
part A pins: 1 VS (power) "Voltage input", 2 0V (power) "Input side common", 3 0V (power) "Input side common", 12 0V (power) "Output side common", 13 +VOUT (power) "+Voltage out", 14 -VOUT (power) "-Voltage out", 28 SYNC (in) "Synchronization pin"
part B pins: 15 NC "Not connected", 16 NC "Not connected", 17 NC "Not connected", 26 NC "Not connected", 27 NC "Not connected"

## DCP020515DU/1K
designator U?
Miniature, 2 W Isolated Unregulated DC-DC Converter, -40 to 85 degC, 12-pin SOP (DVB12), Pb-Free (RoHS); Manufacturer: Texas Instruments; PartNumber: DCP020515DU/1K; Iout(Max)(A): 0.066; Regulated Outputs(#): 2; SubFamily: 1 W & 2 W Miniature; Vin(Max)(V): 5.5; Vin(Min)(V): 4.5; Vout(Max)(V): 15.75; Vout(Min)(V): 14.25; DatasheetVersion: SBVS011K; PackageVersion: 4202104/B; PackageReference: DVB12; PackageDescription: 12-Pin Plastic Small Outline, Body 17.9 x 7.5 mm; Supplier 1: Digi-Key; Supplier Part Number 1: DCP020515DU/1K-ND; Supplier 2: Newark; Supplier Part Number 2: 74C9347; Supplier 3: Mouser; Supplier Part Number 3: 595-DCP020515DU/1K; Eco-Plan: Pb-Free (RoHS); Mounting Technology: Surface Mount; Code_JEDEC: MS-013-AE; ComponentLink1Description: Manufacturer URL; ComponentLink1URL: http://www.ti.com/; ComponentLink2Description: Datasheet; ComponentLink2URL: http://www.ti.com/general/docs/lit/getliterature.tsp?genericPartNumber=DCP020515D&fileType=pdf; ComponentLink3Description: Package Specification; ComponentLink3URL: http://www.ti.com/lit/ml/mpds106a/mpds106a.pdf; ComponentLink4Description: URL Link1; ComponentLink4URL: Samples URL:http://www.ti.com/product/tps55010#samples
footprint TI-DVB12_N (SOP, 12-Leads, Body 17.9x7.5mm, Pitch 1.27mm, IPC Medium Density)
footprint TI-DVB12_L (SOP, 12-Leads, Body 17.9x7.5mm, Pitch 1.27mm, IPC High Density)
footprint TI-DVB12_M (SOP, 12-Leads, Body 17.9x7.5mm, Pitch 1.27mm, IPC Low Density)
part A pins: 1 VS (power) "Voltage input", 2 0V (power) "Input side common", 3 0V (power) "Input side common", 12 0V (power) "Output side common", 13 +VOUT (power) "+Voltage out", 14 -VOUT (power) "-Voltage out", 28 SYNC (in) "Synchronization pin"
part B pins: 15 NC "Not connected", 16 NC "Not connected", 17 NC "Not connected", 26 NC "Not connected", 27 NC "Not connected"